# Altium footprint library TeknoFest.PcbLib: 43 footprints (part 2 of 3)
Each footprint in its own frame and in the unit in brackets; x right, y up, seen from the top. Pads: shape width x height; smd on the part's side, far side on the other; paste and mask are expansions set on the pad; w line width, h text height; cw(c..) or ccw(c..) is an arc to the next point about the centre after c.
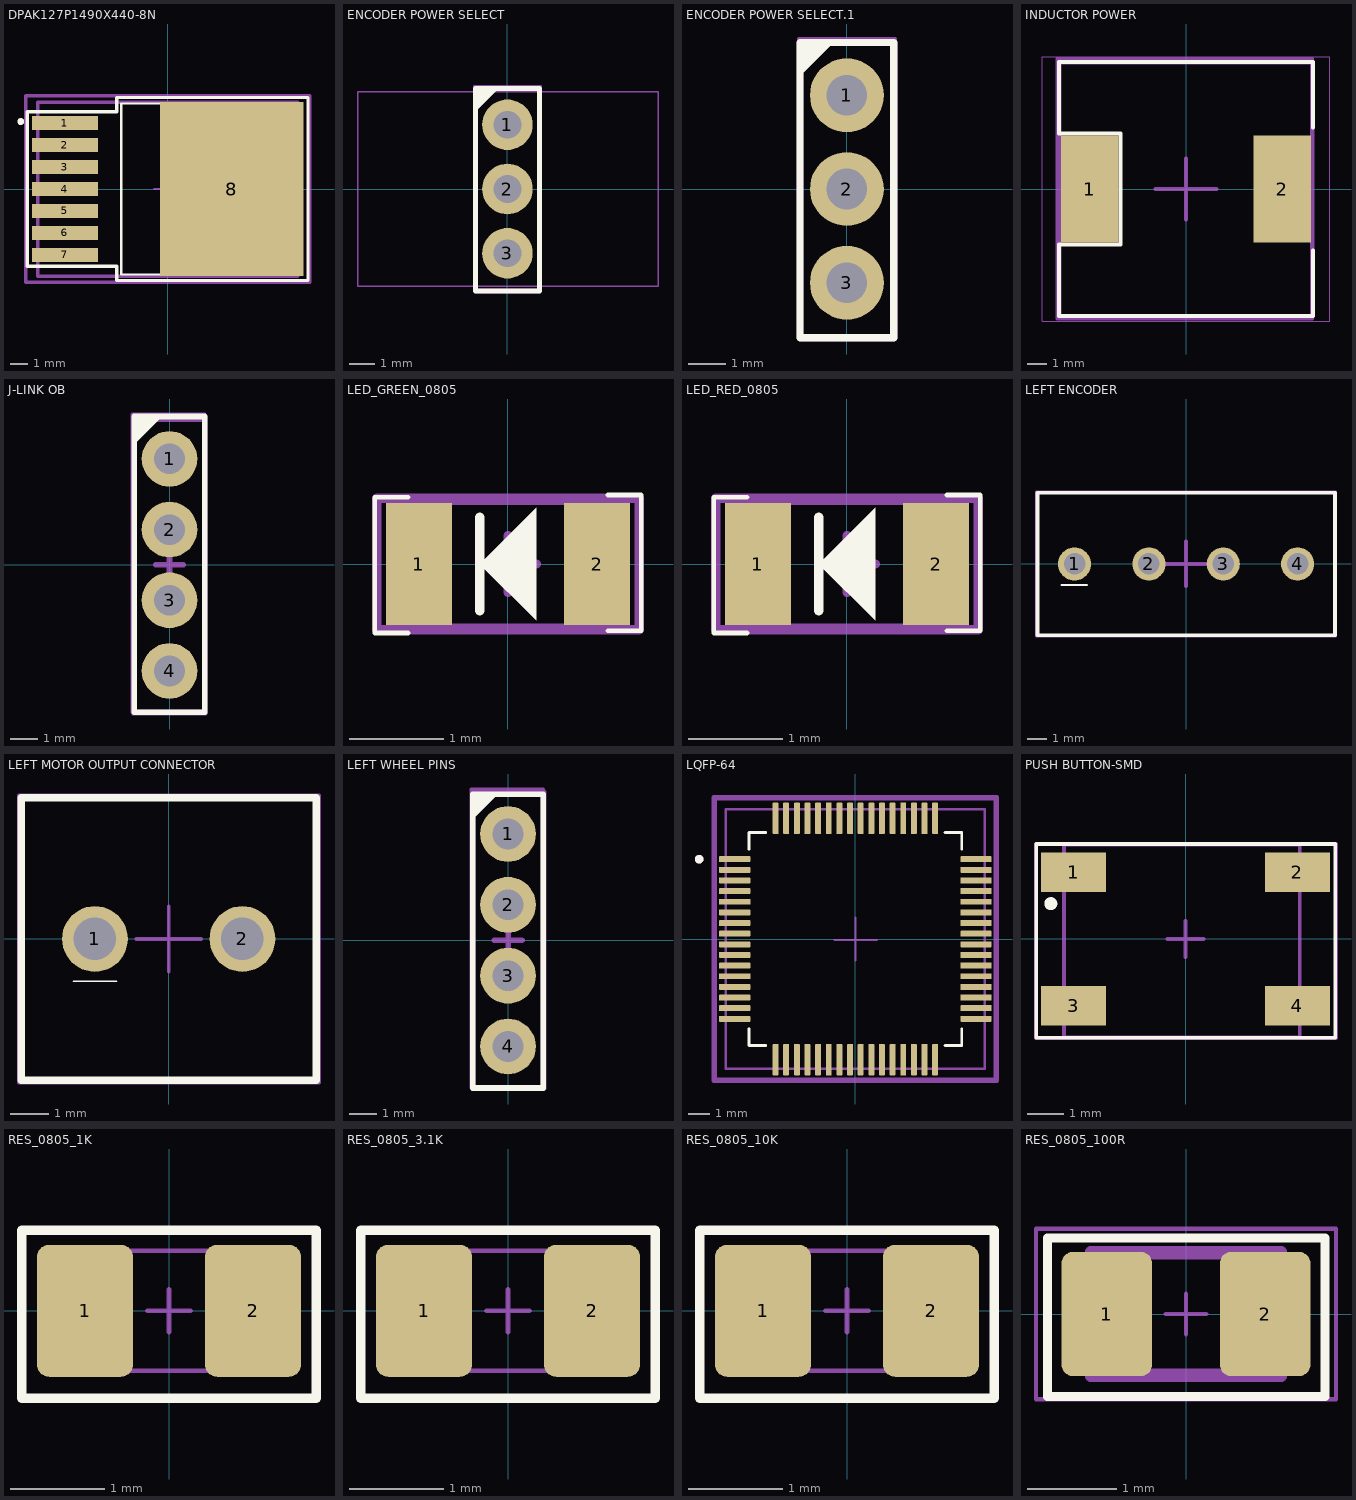
[diagram p1: the footprints below, top view; thin cyan lines are the x and y axes]

## DPAK127P1490X440-8N [mm]
pads (8):
  rect 3.81x0.8 smd: 1(-5.95,3.81) 2(-5.95,2.54) 3(-5.95,1.27) 4(-5.95,0) 5(-5.95,-1.27) 6(-5.95,-2.54) 7(-5.95,-3.81)
  rect 8.29x10.07 smd paste-4.36: 8(3.71,0)
Top Overlay:
  circle w0.2: c-8.5,3.9 r0.1
  circle w0.2: c-8.5,3.9 r0.1
  lines w0.127: -2.69,-4.95 -2.69,4.95 6.71,4.95 6.71,-4.95 -2.69,-4.95
  lines w0.2: -8.11,-4.46 -2.94,-4.46 -2.94,-5.29 8.11,-5.29 8.11,5.29 -2.94,5.29 -2.94,4.46 -8.11,4.46 -8.11,-4.46
Top Paste:
  region: 4.535,1.345 2.885,1.345 2.885,2.695 4.535,2.695
  region: 4.535,3.365 2.885,3.365 2.885,4.715 4.535,4.715
  region: 4.535,-2.695 2.885,-2.695 2.885,-1.345 4.535,-1.345
  region: 4.535,-4.715 2.885,-4.715 2.885,-3.365 4.535,-3.365
  region: 7.295,3.365 5.645,3.365 5.645,4.715 7.295,4.715
  region: 7.295,1.345 5.645,1.345 5.645,2.695 7.295,2.695
  region: 7.295,-0.675 5.645,-0.675 5.645,0.675 7.295,0.675
  region: 7.295,-2.695 5.645,-2.695 5.645,-1.345 7.295,-1.345
  region: 7.295,-4.715 5.645,-4.715 5.645,-3.365 7.295,-3.365
  region: 1.775,-4.715 0.125,-4.715 0.125,-3.365 1.775,-3.365
  region: 1.775,-2.695 0.125,-2.695 0.125,-1.345 1.775,-1.345
  region: 1.775,-0.675 0.125,-0.675 0.125,0.675 1.775,0.675
  region: 1.775,1.345 0.125,1.345 0.125,2.695 1.775,2.695
  region: 1.775,3.365 0.125,3.365 0.125,4.715 1.775,4.715
Top 3D Body:
  lines w0.2: -7.518,-5.044 7.519,-5.044 7.519,5.022 -7.518,5.022 -7.518,-5.044
Top Component Center:
  lines w0.1: -0.8,0 0.8,0 ; 0,-0.8 0,0.8
  lines w0.2: -8.2,-5.4 -8.2,5.4 8.2,5.4 8.2,-5.4 -7.8,-5.4 -8.2,-5.4
Top  Designator:
  lines w0.2: -8.2,-5.4 -8.2,5.4 8.2,5.4 8.2,-5.4 -8.2,-5.4
  text ".Designator" at -1.143,0 h1.52
3D body "step_temp.STEP": height 4.4, standoff 0, extent -7.45,-4.95 7.45,4.95

## ENCODER POWER SELECT [mm]
pads (3):
  round 2 hole 1.1: 1(0,2.54) 2(0,0) 3(0,-2.54)
Top Overlay:
  region: -1.23,4 -1.23,3.1 -0.33,4
  lines w0.2: -1.27,-4.03 1.27,-4.03 1.27,3.97 -1.27,3.97 -1.27,-4.03
Top 3D Body:
  lines w0.1: -1.305,-4.039 1.313,-4.039 1.313,4.064 -1.305,4.064 -1.305,-4.039
Top Component Center:
  lines w0.2: -0.5,0 0.5,0 ; 0,-0.5 0,0.5 ; -1.27,-4.03 1.27,-4.03 1.27,3.97 -1.27,3.97 -1.27,-4.03
Top  Designator:
  lines w0.1: -1.27,-4.064 -1.27,4.027 1.27,4.027 1.27,-4.064 -1.27,-4.064
  text ".Designator" at -1.12,-0.406 h1
Mechanical 15:
  lines w0.05: -5.905,-3.85 -5.905,3.85 5.95,3.85 5.95,-3.85 -5.905,-3.85
3D body "M20-7820342.step": height 8.5, standoff -3, extent -1.25,-4.01 1.25,4.01

## ENCODER POWER SELECT.1 [mm]
pads (3):
  round 2 hole 1.1: 1(0,2.54) 2(0,0) 3(0,-2.54)
Top Overlay:
  region: -1.23,4 -1.23,3.1 -0.33,4
  lines w0.2: -1.27,-4.03 -1.27,3.97 1.27,3.97 1.27,-4.03 -1.27,-4.03
Top 3D Body:
  lines w0.1: -1.305,-4.039 -1.305,4.064 1.313,4.064 1.313,-4.039 -1.305,-4.039
Top Component Center:
  lines w0.2: -0.5,0 0.5,0 ; 0,-0.5 0,0.5 ; -1.27,-4.03 -1.27,3.97 1.27,3.97 1.27,-4.03 -1.27,-4.03
Top  Designator:
  lines w0.1: -1.27,-4.064 1.27,-4.064 1.27,4.027 -1.27,4.027 -1.27,-4.064
  text ".Designator" at -1.12,-0.406 h1
3D body "M20-7820342.step": height 8.5, standoff -3, extent -1.25,-4.01 1.25,4.01

## INDUCTOR POWER [mm] "INDUCTOR POWER 33UH 3.5A SMD BOURNS"
pads (2):
  rect 2.9x5.4 smd: 1(-4.85,0) 2(4.85,0)
Top Overlay:
  lines w0.2: 6.4,-3.1 6.4,-6.4 -6.4,-6.4 -6.4,-3.1 -6.4,-2.794 -3.302,-2.794 -3.302,2.794 -6.4,2.794 -6.4,3.1 -6.4,6.4 6.4,6.4 6.4,3.1
Top 3D Body:
  lines w0.2: -6.371,-6.38 -6.371,6.367 6.368,6.367 6.368,-6.38 -6.371,-6.38
Top Component Center:
  lines w0.2: -1.524,0 0,0 ; 0,-1.524 0,0 ; 0,1.524 0,0 ; 1.524,0 0,0 ; -6.371,-6.38 -6.371,6.367 6.368,6.367 6.368,-6.38 -6.371,-6.38
Top  Designator:
  lines w0.2: -6.477,-6.515 6.35,-6.515 6.35,6.545 -6.477,6.545 -6.477,6.35 -6.477,-6.515
  text ".Designator" at -0.508,0.127 h1.52
Mechanical 13:
  lines w0.1: -6.4,-6.4 -6.4,6.4 6.4,6.4 6.4,-6.4 -6.4,-6.4
Mechanical 15:
  lines w0.05: -7.225,-6.65 -7.225,6.65 7.225,6.65 7.225,-6.65 -7.225,-6.65
  lines w0.1: -0.5,0 0.5,0 ; 0,-0.5 0,0.5
3D body "SRR1280.STEP": height 7.9, standoff 0, extent -6.25,-6.25 6.25,6.25

## J-LINK OB [mm] "2.54mm DIL PC TAIL PIN HEADER ASSEMBLY"
height 5
pads (4):
  round 2 hole 1.1: 1(0,3.81) 2(0,1.27) 3(0,-1.27) 4(0,-3.81)
Top Overlay:
  region: -1.23,5.27 -1.23,4.37 -0.33,5.27
  lines w0.2: -1.27,-5.3 1.27,-5.3 1.27,5.334 -1.27,5.334 -1.27,-5.3
Top 3D Body:
  lines w0.1: -1.319,-5.357 -1.319,5.345 1.308,5.345 1.308,-5.357 -1.319,-5.357
Top Component Center:
  lines w0.2: -0.5,0 0.5,0 ; 0,-0.5 0,0.5 ; -1.27,-5.3 1.27,-5.3 1.27,5.24 -1.27,5.24 -1.27,-5.3
Top  Designator:
  lines w0.1: -1.344,-5.303 1.27,-5.303 1.27,5.424 -1.344,5.424 -1.344,-5.303
  text ".Designator" at 0.279,-0.612 h1
3D body "M20-7820442.step": height 8.5, standoff -3, extent -1.25,-5.28 1.25,5.28

## LED_GREEN_0805 [mm]
pads (2):
  rect 0.7x1.3 smd mask+0.05: 1(-0.95,0) 2(0.95,0)
Top Overlay:
  region: -0.3,0 0.3,0.6 0.3,-0.6
  lines w0.05: -1.067,-0.737 -1.422,-0.737 -1.422,0.711 -1.067,0.711 ; 1.067,-0.711 1.422,-0.711 1.422,0.737 1.067,0.737
  lines w0.1: -0.3,-0.5 -0.3,0.5
Top 3D Body:
  lines w0.05: -1.04,-0.658 -1.04,0.653 1.043,0.653 1.043,-0.658 -1.04,-0.658
Top Component Center:
  lines w0.1: -0.3,0 0.3,0 ; 0,-0.3 0,0.3 ; -1.4,-0.7 -1.4,0.7 1.4,0.7 1.4,-0.7 -1.4,-0.7
Top  Designator:
  lines w0.1: -1.4,-0.7 -1.4,0.7 1.4,0.7 1.4,-0.7 -1.4,-0.7
  text "'.Designator'" at -1.25,-0.317 h0.7
3D body "SMD_0805LED_GREEN.STEP": height 1.1, standoff 0, extent -1.01,-0.625 1.01,0.625

## LED_RED_0805 [mm]
pads (2):
  rect 0.7x1.3 smd mask+0.05: 1(-0.95,0) 2(0.95,0)
Top Overlay:
  region: -0.3,0 0.3,0.6 0.3,-0.6
  lines w0.05: -1.067,-0.737 -1.422,-0.737 -1.422,0.711 -1.067,0.711 ; 1.067,-0.711 1.422,-0.711 1.422,0.737 1.067,0.737
  lines w0.1: -0.3,-0.5 -0.3,0.5
Top 3D Body:
  lines w0.05: -1.04,-0.658 -1.04,0.653 1.043,0.653 1.043,-0.658 -1.04,-0.658
Top Component Center:
  lines w0.1: -0.3,0 0.3,0 ; 0,-0.3 0,0.3 ; -1.4,-0.7 -1.4,0.7 1.4,0.7 1.4,-0.7 -1.4,-0.7
Top  Designator:
  lines w0.1: -1.4,-0.7 -1.4,0.7 1.4,0.7 1.4,-0.7 -1.4,-0.7
  text "'.Designator'" at -1.25,-0.317 h0.7
3D body "SMD_0805LED_RED.STEP": height 1.1, standoff 0, extent -1.01,-0.625 1.01,0.625

## LEFT ENCODER [mm]
pads (4):
  round 1.7 hole 1.1: 1(-5.715,0) 2(-1.905,0) 3(1.905,0) 4(5.715,0)
Top Overlay:
  lines w0.1: -6.375,-1.067 -5.08,-1.067
  lines w0.2: -7.62,-3.65 7.62,-3.65 7.62,3.65 -7.62,3.65 -7.62,-3.65
Top 3D Body:
  lines w0.1: -7.689,-3.727 -7.689,3.725 7.679,3.725 7.679,-3.727 -7.689,-3.727
Top Component Center:
  lines w0.1: -7.689,-3.727 7.679,-3.727 7.679,3.725 -7.689,3.725 -7.689,-3.727
  lines w0.2: -1.143,0 0,0 ; 0,-1.143 0,0 ; 0,1.143 0,0 ; 1.143,0 0,0
Top  Designator:
  lines w0.1: -7.62,-3.683 -7.62,3.683 7.62,3.683 7.62,-3.683 -7.62,-3.683
  text ".Designator" at 0,0.127 h1.52
3D body "Phoenix Contact - 1727036 v2.step": height 8.5, standoff -3.5, extent -7.62,-3.65 7.62,3.65

## LEFT MOTOR OUTPUT CONNECTOR [mm]
pads (2):
  round 1.7 hole 1.1: 1(-1.905,0) 2(1.905,0)
Top Overlay:
  lines w0.05: -2.464,-1.092 -1.346,-1.092
  lines w0.2: -3.81,-3.65 -3.81,3.65 3.81,3.65 3.81,-3.65 -3.81,-3.65
Top 3D Body:
  lines w0.1: -3.867,-3.708 3.883,-3.708 3.883,3.705 -3.867,3.705 -3.867,-3.708
Top Component Center:
  lines w0.1: -0.838,0 0,0 ; 0,-0.838 0,0 ; 0,0.838 0,0 ; 0.838,0 0,0 ; -3.867,-3.708 -3.867,3.705 3.883,3.705 3.883,-3.708 -3.867,-3.708
Top  Designator:
  lines w0.1: -3.81,-3.683 3.81,-3.683 3.81,3.683 -3.81,3.683 -3.81,-3.683
  text ".Designator" at -0.762,-0.127 h1.52
3D body "Phoenix Contact - 1727010 v11.step": height 8.5, standoff -3.5, extent -3.81,-3.65 3.81,3.65

## LEFT WHEEL PINS [mm]
pads (4):
  round 2 hole 1.1: 1(0,3.81) 2(0,1.27) 3(0,-1.27) 4(0,-3.81)
Top Overlay:
  region: -1.23,5.27 -1.23,4.37 -0.33,5.27
  lines w0.2: -1.27,-5.3 1.27,-5.3 1.27,5.24 -1.27,5.24 -1.27,-5.3
Top 3D Body:
  lines w0.1: -1.3,-5.335 -1.3,5.334 1.321,5.334 1.321,-5.335 -1.3,-5.335
Top Component Center:
  lines w0.2: -0.5,0 0.5,0 ; 0,-0.5 0,0.5 ; -1.27,-5.3 1.27,-5.3 1.27,5.24 -1.27,5.24 -1.27,-5.3
Top  Designator:
  lines w0.1: -1.324,-5.303 1.27,-5.303 1.27,5.424 -1.324,5.424 -1.324,-5.303
  text ".Designator" at -0.866,-0.025 h1
3D body "M20-7820442.step": height 8.5, standoff -3, extent -1.25,-5.28 1.25,5.28

## LQFP-64 [mm]
height 1.6
pads (64):
  rrect25% 1.47x0.28 smd: 1(-5.67,3.75) 2(-5.67,3.25) 3(-5.67,2.75) 4(-5.67,2.25) 5(-5.67,1.75) 6(-5.67,1.25) 7(-5.67,0.75) 8(-5.67,0.25) 9(-5.67,-0.25) 10(-5.67,-0.75) 11(-5.67,-1.25) 12(-5.67,-1.75) 13(-5.67,-2.25) 14(-5.67,-2.75) 15(-5.67,-3.25) 16(-5.67,-3.75) 33(5.67,-3.75) 34(5.67,-3.25) 35(5.67,-2.75) 36(5.67,-2.25) 37(5.67,-1.75) 38(5.67,-1.25) 39(5.67,-0.75) 40(5.67,-0.25) 41(5.67,0.25) 42(5.67,0.75) 43(5.67,1.25) 44(5.67,1.75) 45(5.67,2.25) 46(5.67,2.75) 47(5.67,3.25) 48(5.67,3.75)
  rrect25% 0.28x1.47 smd: 17(-3.75,-5.67) 18(-3.25,-5.67) 19(-2.75,-5.67) 20(-2.25,-5.67) 21(-1.75,-5.67) 22(-1.25,-5.67) 23(-0.75,-5.67) 24(-0.25,-5.67) 25(0.25,-5.67) 26(0.75,-5.67) 27(1.25,-5.67) 28(1.75,-5.67) 29(2.25,-5.67) 30(2.75,-5.67) 31(3.25,-5.67) 32(3.75,-5.67) 49(3.75,5.67) 50(3.25,5.67) 51(2.75,5.67) 52(2.25,5.67) 53(1.75,5.67) 54(1.25,5.67) 55(0.75,5.67) 56(0.25,5.67) 57(-0.25,5.67) 58(-0.75,5.67) 59(-1.25,5.67) 60(-1.75,5.67) 61(-2.25,5.67) 62(-2.75,5.67) 63(-3.25,5.67) 64(-3.75,5.67)
Top Overlay:
  circle w0.2: c-7.34,3.75 r0.1
  lines w0.127: -5,-4.21 -5,-5 -4.21,-5 ; -5,4.21 -5,5 -4.21,5 ; 4.21,-5 5,-5 5,-4.21 ; 4.21,5 5,5 5,4.21
Top 3D Body:
  circle w0.2: c-7.34,3.75 r0.1
  lines w0.127: -6.085,-6.096 -6.085,6.091 6.08,6.091 6.08,-6.096 -6.085,-6.096
Top Component Center:
  lines w0.1: -0.981,-0.051 1.019,-0.051 ; 0,-1 0,1
  lines w0.2: -6.655,-6.655 6.655,-6.655 6.655,6.655 -6.655,6.655 -6.655,-6.655
Top  Designator:
  lines w0.2: -6.6,-6.6 6.6,-6.6 6.6,6.6 -6.6,6.6 -6.6,-6.6
  text ".Designator" at 0.254,0.762 h1.52
3D body "STM32 LQFP64.step": height 1.6, standoff 0, extent -6,-6 6,6

## PUSH BUTTON-SMD [mm]
pads (4):
  rect 1.8x1.1 smd mask+0.05: 1(-3.1,1.85) 2(3.1,1.85) 3(-3.1,-1.85) 4(3.1,-1.85)
Top Overlay:
  circle w0.2: c-3.734,0.979 r0.08
  lines w0.1: -4.136,-2.736 4.153,-2.736 4.153,2.633 -4.136,2.633 -4.136,-2.736
Top 3D Body:
  lines w0.1: -3.369,-2.72 -3.369,2.608 3.167,2.608 3.167,-2.72 -3.369,-2.72
Top Component Center:
  lines w0.1: -0.5,0 0.5,0 ; 0,-0.5 0,0.5 ; -4.144,-2.751 -4.144,2.633 4.169,2.633 4.169,-2.751 -4.144,-2.751
Top  Designator:
  lines w0.1: -4.144,-2.751 4.169,-2.751 4.169,2.633 -4.144,2.633 -4.144,-2.751
  text ".Designator" at -1.8,-0.433 h1.1
3D body "User Library-4x4_SMD_Switch.step": height 1.5, standoff 0, extent -3.3,-2.65 3.1,2.55

## RES_0805_1K [mil]
pads (2):
  rrect25% 40x55 smd: 1(-35,0) 2(35,0)
Top Overlay:
  lines w3.94: -61.27,-36.47 -61.27,33.53 61.42,33.53 61.42,-36.47 -61.27,-36.47
Top 3D Body:
  lines w1.97: -39,-25 40,-25 40,25 -39,25 -39,-25
Top Component Center:
  lines w1.97: -9,0 0,0 ; 0,-9 0,0 ; 0,9 0,0 ; 9,0 0,0 ; -62,-36 62,-36 62,34 -61,34 -62,34 -62,-36
Top  Designator:
  lines w1.97: -61.76,-36.79 -61.76,32.84 -61.76,34.1 61.34,34.1 61.34,-36.79 -61.76,-36.79
  text ".Designator" at -6.06,-4.5 h19.68
3D body "RC0805FR-07330RL.STEP": height 23.62, standoff 0, extent -39.37,-24.61 39.37,24.61

## RES_0805_3.1K [mil]
pads (2):
  rrect25% 40x55 smd: 1(-35,0) 2(35,0)
Top Overlay:
  lines w3.94: -61.27,-36.47 -61.27,33.53 61.42,33.53 61.42,-36.47 -61.27,-36.47
Top 3D Body:
  lines w1.97: -39,-25 -39,25 40,25 40,-25 -39,-25
Top Component Center:
  lines w1.97: -9,0 0,0 ; 0,-9 0,0 ; 0,9 0,0 ; 9,0 0,0 ; -62,-36 -62,34 -61,34 62,34 62,-36 -62,-36
Top  Designator:
  lines w1.97: -61.76,-36.79 61.34,-36.79 61.34,34.1 -61.76,34.1 -61.76,32.84 -61.76,-36.79
  text ".Designator" at -6.06,-4.5 h19.68
3D body "RC0805FR-07330RL.STEP": height 23.62, standoff 0, extent -39.37,-24.61 39.37,24.61

## RES_0805_10K [mil]
pads (2):
  rrect25% 40x55 smd: 1(-35,0) 2(35,0)
Top Overlay:
  lines w3.94: -61.27,-36.47 61.42,-36.47 61.42,33.53 -61.27,33.53 -61.27,-36.47
Top 3D Body:
  lines w1.97: -39,-25 40,-25 40,25 -39,25 -39,-25
Top Component Center:
  lines w1.97: -9,0 0,0 ; 0,-9 0,0 ; 0,9 0,0 ; 9,0 0,0 ; -62,-36 62,-36 62,34 -61,34 -62,34 -62,-36
Top  Designator:
  lines w1.97: -61.76,-36.79 61.34,-36.79 61.34,34.1 -61.76,34.1 -61.76,32.84 -61.76,-36.79
  text ".Designator" at -6.06,-4.5 h19.68
3D body "RC0805FR-07330RL.STEP": height 23.62, standoff 0, extent -39.37,-24.61 39.37,24.61

## RES_0805_100R [mil]
pads (2):
  rrect25% 40x55 smd: 1(-35,0) 2(35,0)
Top Overlay:
  lines w3.94: -61.27,-36.47 61.42,-36.47 61.42,33.53 -61.27,33.53 -61.27,-36.47
Top 3D Body:
  lines w1.97: -39,-25 40,-25 40,25 -39,25 -39,-25
Top Component Center:
  lines w1.97: -9,0 0,0 ; 0,-9 0,0 ; 0,9 0,0 ; 9,0 0,0 ; -62,-36 -62,34 -61,34 62,34 62,-36 -62,-36
Top  Designator:
  lines w1.97: -61.76,-36.79 -61.76,32.84 -61.76,34.1 61.34,34.1 61.34,-36.79 -61.76,-36.79
  text ".Designator" at -6.06,-4.5 h19.68
Mechanical 13:
  lines w5: -42.13,-27.56 -42.13,27.56 ; -42.13,-27.56 42.13,-27.56 ; -42.13,-27.56 42.13,-27.56 ; -42.13,-27.56 -42.13,27.56 ; -42.13,27.56 42.13,27.56 ; -42.13,27.56 42.13,27.56 ; 42.13,-27.56 42.13,27.56 ; 42.13,-27.56 42.13,27.56
Mechanical 15:
  lines w1.97: -66.34,-37.8 -66.34,37.8 ; -66.34,-37.8 66.34,-37.8 ; -66.34,-37.8 66.34,-37.8 ; -66.34,-37.8 -66.34,37.8 ; -66.34,37.8 66.34,37.8 ; -66.34,37.8 66.34,37.8 ; 66.34,-37.8 66.34,37.8 ; 66.34,-37.8 66.34,37.8
3D body "RC0805FR-07330RL.STEP": height 23.62, standoff 0, extent -39.37,-24.61 39.37,24.61